# EAGLE library part BM832 (library BM832)
Check prices <https://pricing.snapeda.com/parts/BM832/Fanstel/view-part?ref=eda>
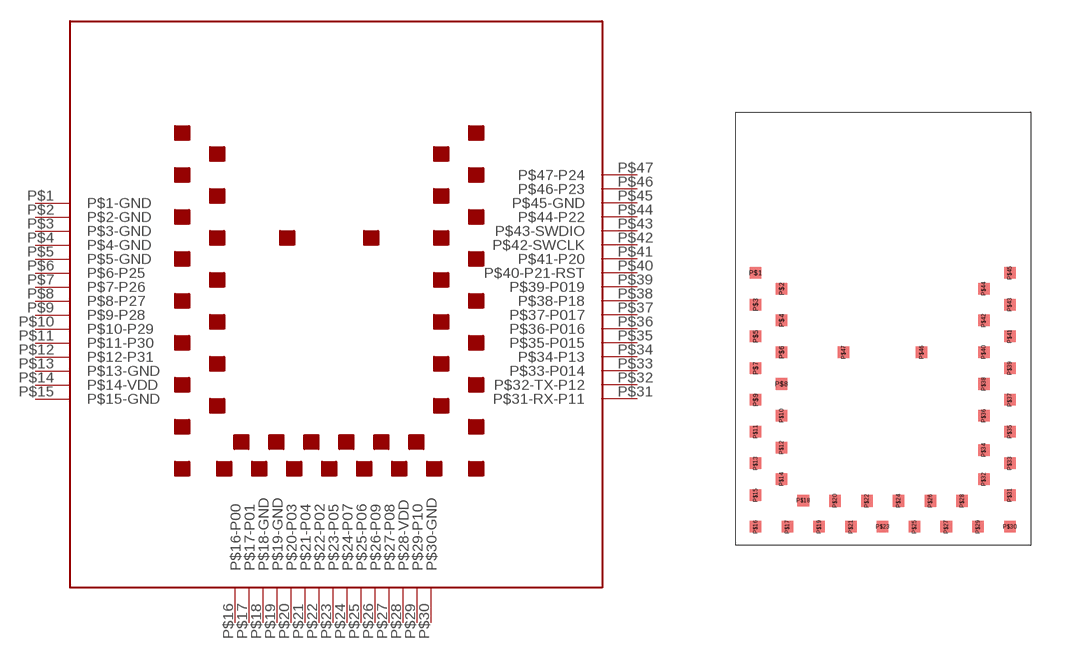
[diagram p0: symbol with the pads of BM832; footprint BM832]

Designator prefix U

## BM832 (Availability: Not in stock; Description: Bluetooth Bluetooth v5.0 Transceiver Module 2.4GHz PCB Trace Surface Mount; MF: Fanstel; MP: BM832; Package: SMD-47 Fanstel; Price: None)  [BM832]
P$1  P$1-GND
P$2  P$2-GND
P$3  P$3-GND
P$4  P$4-GND
P$5  P$5-GND
P$6  P$6-P25
P$7  P$7-P26
P$8  P$8-P27
P$9  P$9-P28
P$10  P$10-P29
P$11  P$11-P30
P$12  P$12-P31
P$13  P$13-GND
P$14  P$14-VDD
P$15  P$15-GND
P$16  P$16-P00
P$17  P$17-P01
P$18  P$18-GND
P$19  P$19-GND
P$20  P$20-P03
P$21  P$21-P04
P$22  P$22-P02
P$23  P$23-P05
P$24  P$24-P07
P$25  P$25-P06
P$26  P$26-P09
P$27  P$27-P08
P$28  P$28-VDD
P$29  P$29-P10
P$30  P$30-GND
P$31  P$31-RX-P11
P$32  P$32-TX-P12
P$33  P$33-P014
P$34  P$34-P13
P$35  P$35-P015
P$36  P$36-P016
P$37  P$37-P017
P$38  P$38-P18
P$39  P$39-P019
P$40  P$40-P21-RST
P$41  P$41-P20
P$42  P$42-SWCLK
P$43  P$43-SWDIO
P$44  P$44-P22
P$45  P$45-GND
P$46  P$46-P23
P$47  P$47-P24

## Footprint BM832 (pad centres in mm)
smd 0.4 x 0.4: P$1 0.69,9.44; P$2 1.59,8.89; P$3 0.69,8.34; P$4 1.59,7.79; P$5 0.69,7.24; P$6 1.59,6.69; P$7 0.69,6.14; P$8 1.59,5.59; P$9 0.69,5.04; P$10 1.59,4.49; P$11 0.69,3.94; P$12 1.59,3.39; P$13 0.69,2.84; P$14 1.59,2.29; P$15 0.69,1.74; P$16 0.69,0.64; P$17 1.79,0.64; P$18 2.34,1.55; P$19 2.89,0.64; P$20 3.44,1.54; P$21 3.99,0.64; P$22 4.54,1.54; P$23 5.09,0.64; P$24 5.64,1.54; P$25 6.19,0.64; P$26 6.74,1.54; P$27 7.29,0.64; P$28 7.84,1.54; P$29 8.39,0.64; P$30 9.49,0.64; P$31 9.49,1.74; P$32 8.59,2.29; P$33 9.49,2.84; P$34 8.59,3.3; P$35 9.49,3.94; P$36 8.59,4.49; P$37 9.49,5.04; P$38 8.59,5.59; P$39 9.49,6.14; P$40 8.59,6.69; P$41 9.49,7.24; P$42 8.59,7.79; P$43 9.49,8.34; P$44 8.59,8.89; P$45 9.49,9.44; P$46 6.44,6.69; P$47 3.74,6.69